# Altium footprint library TRANS_S8550.PcbLib: 1 footprints
Each footprint in its own frame and in the unit in brackets; x right, y up, seen from the top. Pads: shape width x height; smd on the part's side, far side on the other; paste and mask are expansions set on the pad; w line width, h text height; cw(c..) or ccw(c..) is an arc to the next point about the centre after c.
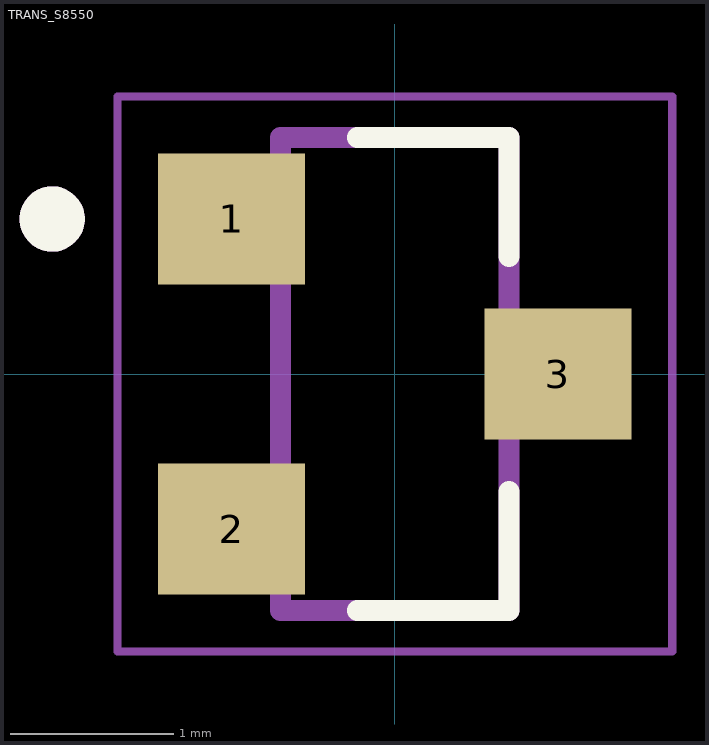
[diagram p0: the footprint, top view; thin cyan lines are the x and y axes]

## TRANS_S8550 [mm]
height 1.4
pads (3):
  rect 0.9x0.8 smd: 1(-1,0.95) 2(-1,-0.95) 3(1,0)
Top Overlay:
  circle w0.2: c-2.1,0.95 r0.1
  lines w0.127: -0.23,-1.45 0.7,-1.45 0.7,-0.72 ; -0.23,1.45 0.7,1.45 0.7,0.72
Assembly Top:
  circle w0.2: c-2.1,0.95 r0.1
  lines w0.127: -0.7,-1.45 0.7,-1.45 0.7,1.45 -0.7,1.45 -0.7,-1.45
Courtyard Top:
  lines w0.05: -1.7,-1.7 1.7,-1.7 1.7,1.7 -1.7,1.7 -1.7,-1.7
3D body "step_temp.STEP": height 1.4, standoff 0, extent -1.262,-1.45 1.262,1.45